# EAGLE library part W011 (library dec-m)
One-sided 9 pin connector/cable with grounds (Negibus).
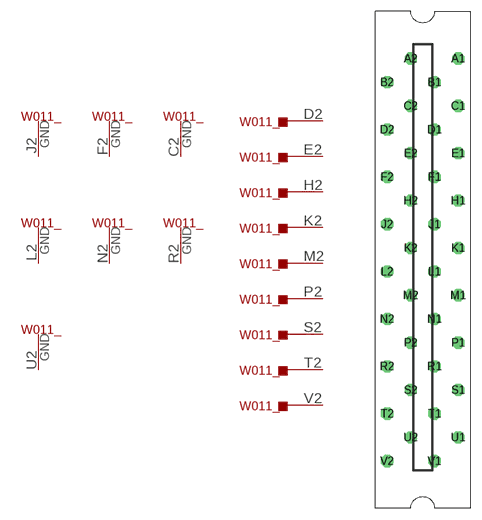
[diagram p33: symbol with the pads of H807; footprint H807]

Designator prefix W011_; gates G$4=PIN G$5=PIN G$7=PIN G$9=PIN G$11=PIN G$13=PIN G$15=PIN G$16=PIN G$18=PIN G$1=T1GND G$2=T1GND G$3=T1GND G$6=T1GND G$8=T1GND G$10=T1GND G$12=T1GND

## W011  [H807]
C2  G$1:GND  pwr
D2  G$4:P$2
E2  G$5:P$2
F2  G$2:GND  pwr
H2  G$7:P$2
J2  G$3:GND  pwr
K2  G$9:P$2
L2  G$6:GND  pwr
M2  G$11:P$2
N2  G$8:GND  pwr
P2  G$13:P$2
R2  G$10:GND  pwr
S2  G$15:P$2
T2  G$16:P$2
U2  G$12:GND  pwr
V2  G$18:P$2

## Footprint H807 (pad centres in mm)
One-wide female edge connector
drill 1.092 octagon: A1 4.763,28.575; A2 -1.587,28.575; B1 1.587,25.4; B2 -4.763,25.4; C1 4.763,22.225; C2 -1.587,22.225; D1 1.587,19.05; D2 -4.763,19.05; E1 4.763,15.875; E2 -1.587,15.875; F1 1.587,12.7; F2 -4.763,12.7; H1 4.763,9.525; H2 -1.587,9.525; J1 1.587,6.35; J2 -4.763,6.35; K1 4.763,3.175; K2 -1.587,3.175; L1 1.587,0; L2 -4.763,0; M1 4.763,-3.175; M2 -1.587,-3.175; N1 1.587,-6.35; N2 -4.763,-6.35; P1 4.763,-9.525; P2 -1.587,-9.525; R1 1.587,-12.7; R2 -4.763,-12.7; S1 4.763,-15.875; S2 -1.587,-15.875; T1 1.587,-19.05; T2 -4.763,-19.05; U1 4.763,-22.225; U2 -1.587,-22.225; V1 1.587,-25.4; V2 -4.763,-25.4